# Altium integrated library NRF2401.IntLib: 1 symbol
Pins are listed as number, name and electrical type; pins without a type are passive.

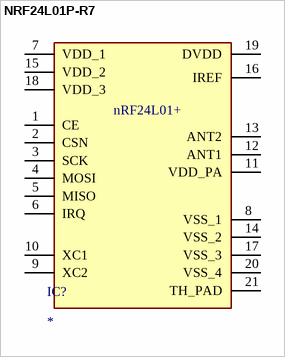
[diagram p0: symbol NRF24L01P-R7]

## NRF24L01P-R7
designator IC?
Integrated Circuit; Manufacturer_Name: Nordic Semiconductor; Manufacturer_Part_Number: NRF24L01P-R7; Datasheet Link: https://www.mouser.com/ds/2/297/nRF24L01P-1187709.pdf; Height: 0.95mm; Mouser Part Number: 949-NRF24L01P-R7; Mouser Price/Stock: https://www.mouser.co.uk/ProductDetail/Nordic-Semiconductor/nRF24L01P-R7?qs=yd0qOhnSiDe8zMRXiZkGiQ%3D%3D; Arrow Part Number: NRF24L01P-R7; Arrow Price/Stock: null?region=nac; Supplier 1: Avnet; Supplier Part Number 1: NRF24L01P-R7
footprint QFN50P400X400X95-21N-D
pins: 1 CE, 2 CSN, 3 SCK, 4 MOSI, 5 MISO, 6 IRQ, 7 VDD_1, 8 VSS_1, 9 XC2, 10 XC1, 11 VDD_PA, 12 ANT1, 13 ANT2, 14 VSS_2, 15 VDD_2, 16 IREF, 17 VSS_3, 18 VDD_3, 19 DVDD, 20 VSS_4, 21 TH_PAD
text: nRF24L01+